# Altium footprint library PcbLib.PcbLib: 285 footprints (part 18 of 18)
Each footprint in its own frame and in the unit in brackets; x right, y up, seen from the top. Pads: shape width x height; smd on the part's side, far side on the other; paste and mask are expansions set on the pad; w line width, h text height; cw(c..) or ccw(c..) is an arc to the next point about the centre after c.
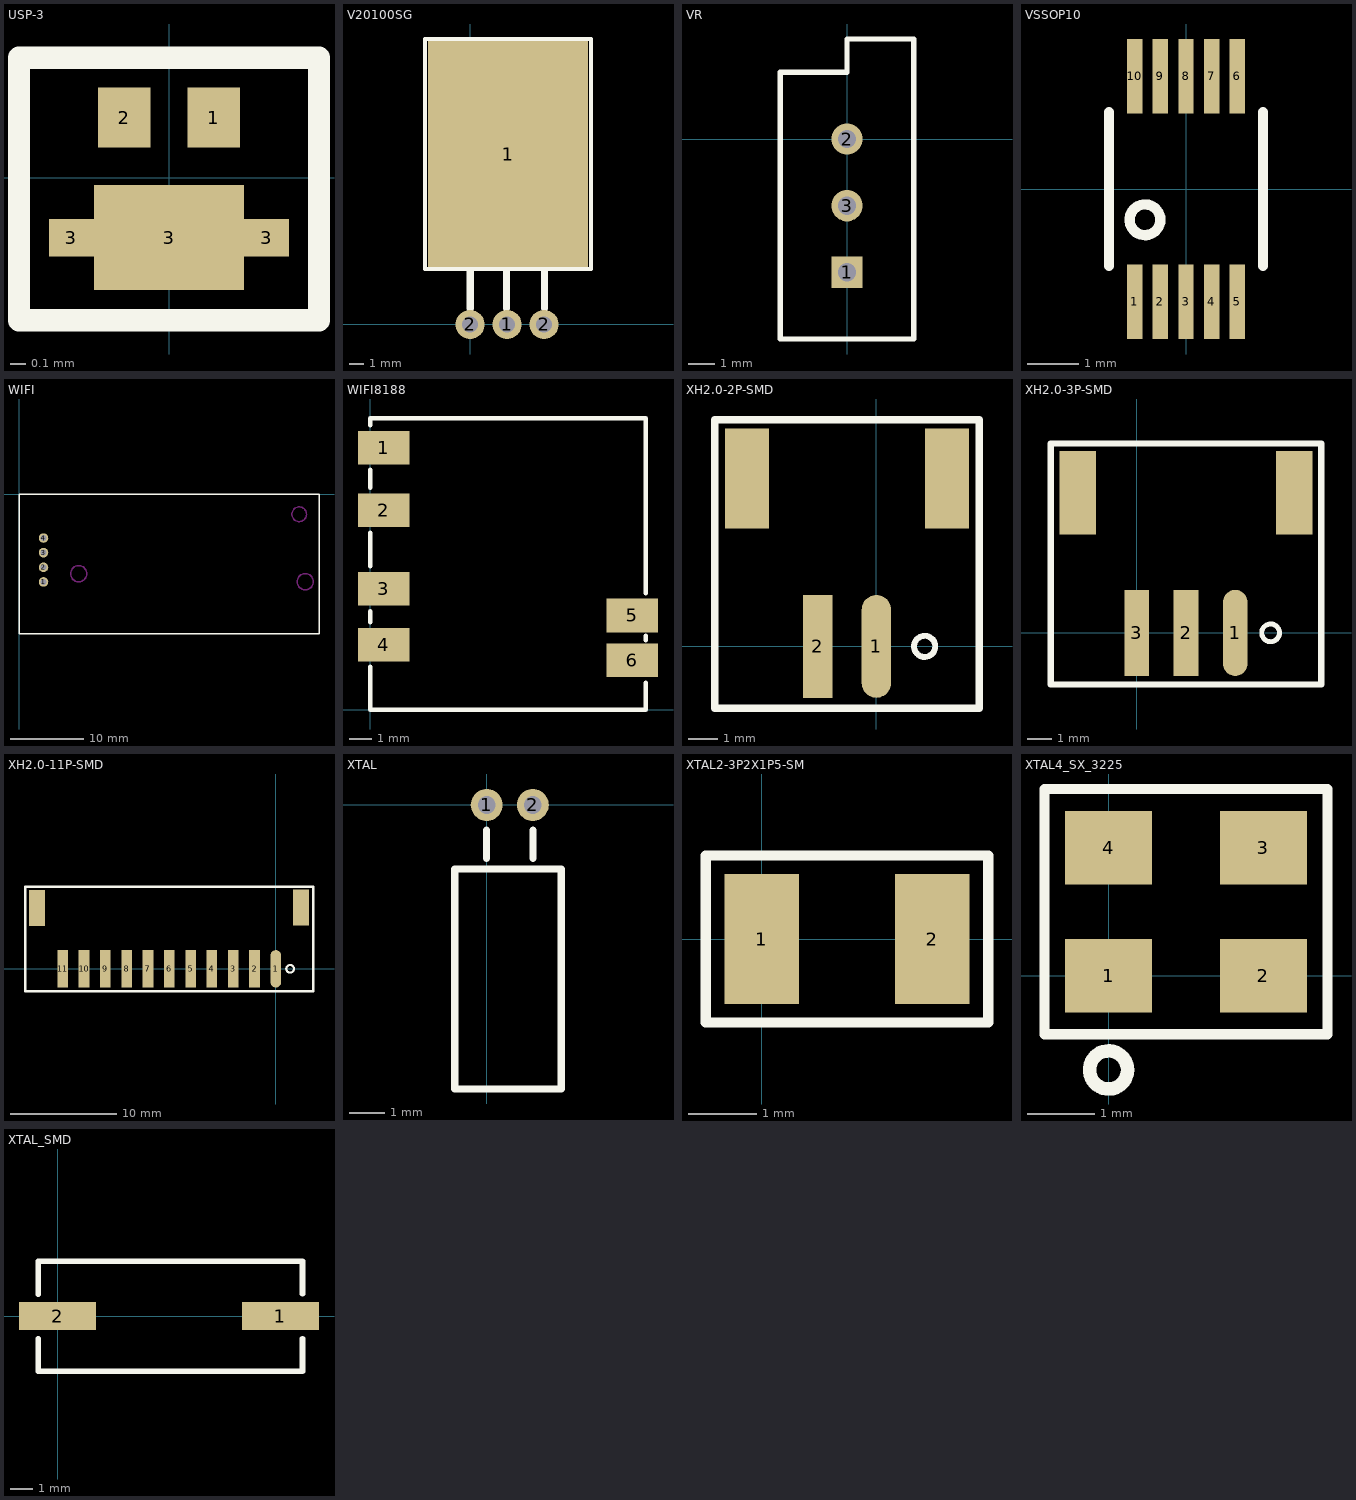
[diagram p17: the footprints below, top view; thin cyan lines are the x and y axes]

## USP-3 [mm]
pads (5):
  rect 0.35x0.4 smd: 1(0.3,0.4) 2(-0.3,0.4)
  rect 0.3x0.25 smd: 3(-0.65,-0.4) 3(0.65,-0.4)
  rect 1x0.7 smd: 3(0,-0.4)
Top Overlay:
  lines w0.15: -1,-0.95 1,-0.95 1,0.8 -1,0.8 -1,-0.95

## V20100SG [mm]
pads (4):
  round 2 hole 1.1: 1(2.54,0) 2(0,0) 2(5.08,0)
  rect 11x15.5 smd: 1(2.6,11.7)
Top Overlay:
  lines w0.254: -3.1,3.8 -3.1,19.6 -2.9,19.6 8.1,19.6 8.3,19.6 8.3,3.8 -3.1,3.8
  lines w0.5: 0,1.1 0,3.6 ; 2.5,1.1 2.5,3.6 ; 5.1,1.1 5.1,3.6

## VR [mm]
pads (3):
  rect 1.2x1.2 hole 0.7: 1(0,-5.08)
  round 1.2 hole 0.7: 2(0,0) 3(0,-2.54)
Top Overlay:
  lines w0.2: -2.54,-7.62 -2.54,2.54 0,2.54 0,3.81 2.54,3.81 2.54,-7.62 -2.54,-7.62

## VSSOP10 [mm]
pads (10):
  rect 0.3x1.45 smd: 1(-1,-2.2) 2(-0.5,-2.2) 3(0,-2.2) 4(0.5,-2.2) 5(1,-2.2) 6(1,2.2) 7(0.5,2.2) 8(0,2.2) 9(-0.5,2.2) 10(-1,2.2)
Top Overlay:
  circle w0.2: c-0.8,-0.6 r0.3
  lines w0.2: -1.5,-1.5 -1.5,1.5 ; 1.5,-1.5 1.5,0 1.5,1.5

## WIFI [mm]
pads (4):
  round 1.3 hole 0.8: 1(3.35,-11.95) 2(3.35,-9.95) 3(3.35,-7.95) 4(3.35,-5.95)
Top Overlay:
  lines w0.2: 0,-19 41,-19 41,0 0,0 0,-19
Keep-Out Layer:
  circle w0.2: c8.15,-10.83 r1.1
  circle w0.2: c38.3,-2.7 r1
  circle w0.2: c39.12,-11.92 r1.1

## WIFI8188 [mm]
pads (6):
  rect 2.3x1.5 smd: 1(0.6,11.7) 2(0.6,8.9) 3(0.6,5.4) 4(0.6,2.9) 5(11.7,4.2) 6(11.7,2.2)
Top Overlay:
  lines w0.2: 0,1.9 0,0 12.3,0 12.3,1.2 ; 0,3.9 0,4.4 ; 0,6.4 0,7.9 ; 0,9.9 0,10.7 ; 0,12.7 0,13 12.3,13 12.3,5.2 ; 12.3,3.1 12.3,3.3

## XH2.0-2P-SMD [mm]
pads (4):
  oval 1x3.5 smd: 1(0,0)
  rect 1x3.5 smd: 2(-2,0)
  rect 1.5x3.4 smd: ""(-4.4,5.7) ""(2.4,5.7)
Top Overlay:
  circle w0.2: c1.639,0 r0.361
  lines w0.254: -5.5,-2.1 -5.5,7 -5.5,7.7 3.5,7.7 3.5,-2.1 -5.5,-2.1

## XH2.0-3P-SMD [mm]
pads (5):
  oval 1x3.5 smd: 1(4,0)
  rect 1x3.5 smd: 2(2,0) 3(0,0)
  rect 1.5x3.4 smd: ""(-2.4,5.7) ""(6.4,5.7)
Top Overlay:
  circle w0.2: c5.439,0 r0.361
  lines w0.254: -3.5,-2.1 7.5,-2.1 7.5,7.7 -3.5,7.7 -3.5,7 -3.5,-2.1

## XH2.0-11P-SMD [mm]
pads (13):
  oval 1x3.5 smd: 1(0,0)
  rect 1x3.5 smd: 2(-2,0) 3(-4,0) 4(-6,0) 5(-8,0) 6(-10,0) 7(-12,0) 8(-14,0) 9(-16,0) 10(-18,0) 11(-20,0)
  rect 1.5x3.4 smd: ""(-22.4,5.7) ""(2.35,5.75)
Top Overlay:
  circle w0.2: c1.339,0 r0.361
  lines w0.254: -12.7,-2.1 3.5,-2.1 3.5,7.7 -12.5,7.7 -23.5,7.7 -23.5,7 -23.5,-2.1 -12.5,-2.1

## XTAL [mm]
pads (2):
  round 0.9 hole 0.5: 1(0,0) 2(1.3,0)
Top Overlay:
  lines w0.2: 0,-1.5 0,-0.7 ; 1.3,-1.5 1.3,-0.7 ; -0.9,-8 -0.9,-1.8 2.1,-1.8 2.1,-8 -0.9,-8

## XTAL2-3P2X1P5-SM [mil]
pads (2):
  rect 43x75 smd: 1(0,0) 2(98.42,0)
Top Overlay:
  lines w5.98: -32.48,-48.23 130.9,-48.23 130.9,48.23 -32.48,48.23 -32.48,11.81 -32.48,-48.23

## XTAL4_SX_3225 [mil]
pads (4):
  rect 51x43 smd: 1(0,0) 2(90.56,0) 3(90.56,74.8) 4(0,74.8)
Top Overlay:
  circle w7.87: c0,-55.12 r11.14
  lines w5.98: -37.4,60.63 -37.4,-34.25 127.96,-34.25 127.96,109.05 -37.4,109.05 -37.4,61.02

## XTAL_SMD [mm]
pads (2):
  rect 3.5x1.27 smd: 1(10.121,0) 2(0,0)
Top Overlay:
  lines w0.254: -0.879,-1.021 -0.879,-2.5 11.121,-2.5 11.121,-1.021 ; -0.879,1 -0.879,2.5 11.121,2.5 11.121,1.021